# Altium footprint library CON TSW-115.PcbLib: 1 footprints
Each footprint in its own frame and in the unit in brackets; x right, y up, seen from the top. Pads: shape width x height; smd on the part's side, far side on the other; paste and mask are expansions set on the pad; w line width, h text height; cw(c..) or ccw(c..) is an arc to the next point about the centre after c.
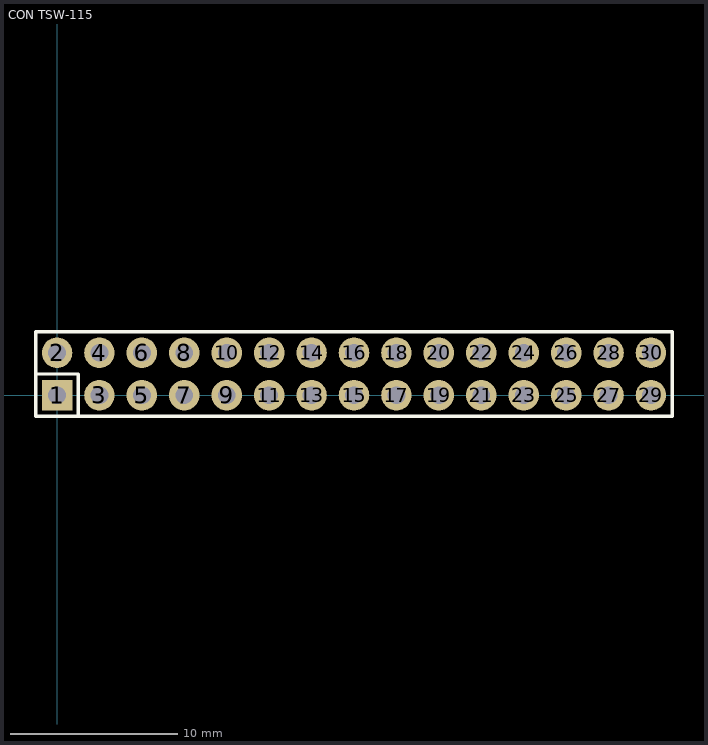
[diagram p0: the footprint, top view; thin cyan lines are the x and y axes]

## CON TSW-115 [mil] "Samtec TSW-115"
pads (30):
  rect 72x72 hole 42: 1(0,0)
  round 72 hole 42: 2(0,100) 3(100,0) 4(100,100) 5(200,0) 6(200,100) 7(300,0) 8(300,100) 9(400,0) 10(400,100) 11(500,0) 12(500,100) 13(600,0) 14(600,100) 15(700,0) 16(700,100) 17(800,0) 18(800,100) 19(900,0) 20(900,100) 21(1000,0) 22(1000,100) 23(1100,0) 24(1100,100) 25(1200,0) 26(1200,100) 27(1300,0) 28(1300,100) 29(1400,0) 30(1400,100)
TopOverlay:
  lines w8: -50,50 50,50 50,-50 ; -50,-50 1450,-50 1450,150 -50,150 -50,-50
Mechanical4:
  text ".341" at 0,0 h1
3D body: height 400.6, standoff -229.4, extent -48.98,-51 1451.02,149